# EAGLE library part MC14014BCPG (library On Semiconductor)
8-Bit Static Shift Register
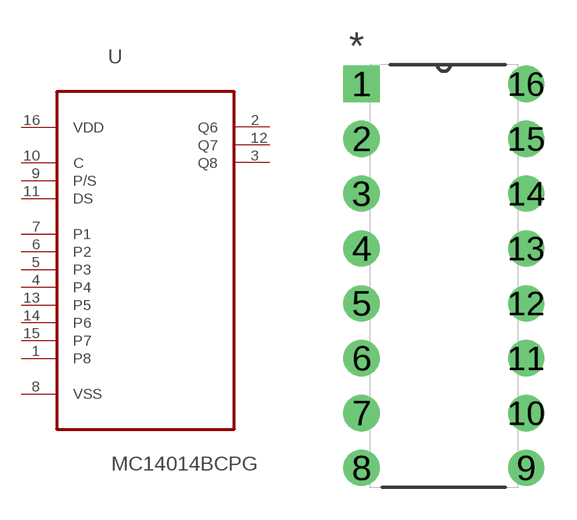
[diagram p205: symbol with the pads of DIP254P762X444-16; footprint DIP254P762X444-16]

Designator prefix U

## MC14014BCPG (MPN: MC14014BCPG; OC_FARNELL: 9664580; OC_NEWARK: 45J1020; PACKAGE: PDIP-16; SUPPLIER: On semiconductors)  [DIP254P762X444-16]
1  P8  in
2  Q6  out
3  Q8  out
4  P4  in
5  P3  in
6  P2  in
7  P1  in
8  VSS  pwr
9  P/S  in
10  C  in
11  DS  in
12  Q7  out
13  P5  in
14  P6  in
15  P7  in
16  VDD  pwr

## Footprint DIP254P762X444-16 (pad centres in mm)
drill 1.118 square: 1 -7.62,17.78
drill 1.118: 2 -7.62,15.24; 3 -7.62,12.7; 4 -7.62,10.16; 5 -7.62,7.62; 6 -7.62,5.08; 7 -7.62,2.54; 8 -7.62,0; 9 0,0; 10 0,2.54; 11 0,5.08; 12 0,7.62; 13 0,10.16; 14 0,12.7; 15 0,15.24; 16 0,17.78